# Altium schematic symbol library spacemonochrome-WR_TBL.SchLib: 1696 symbols (part 17 of 28)
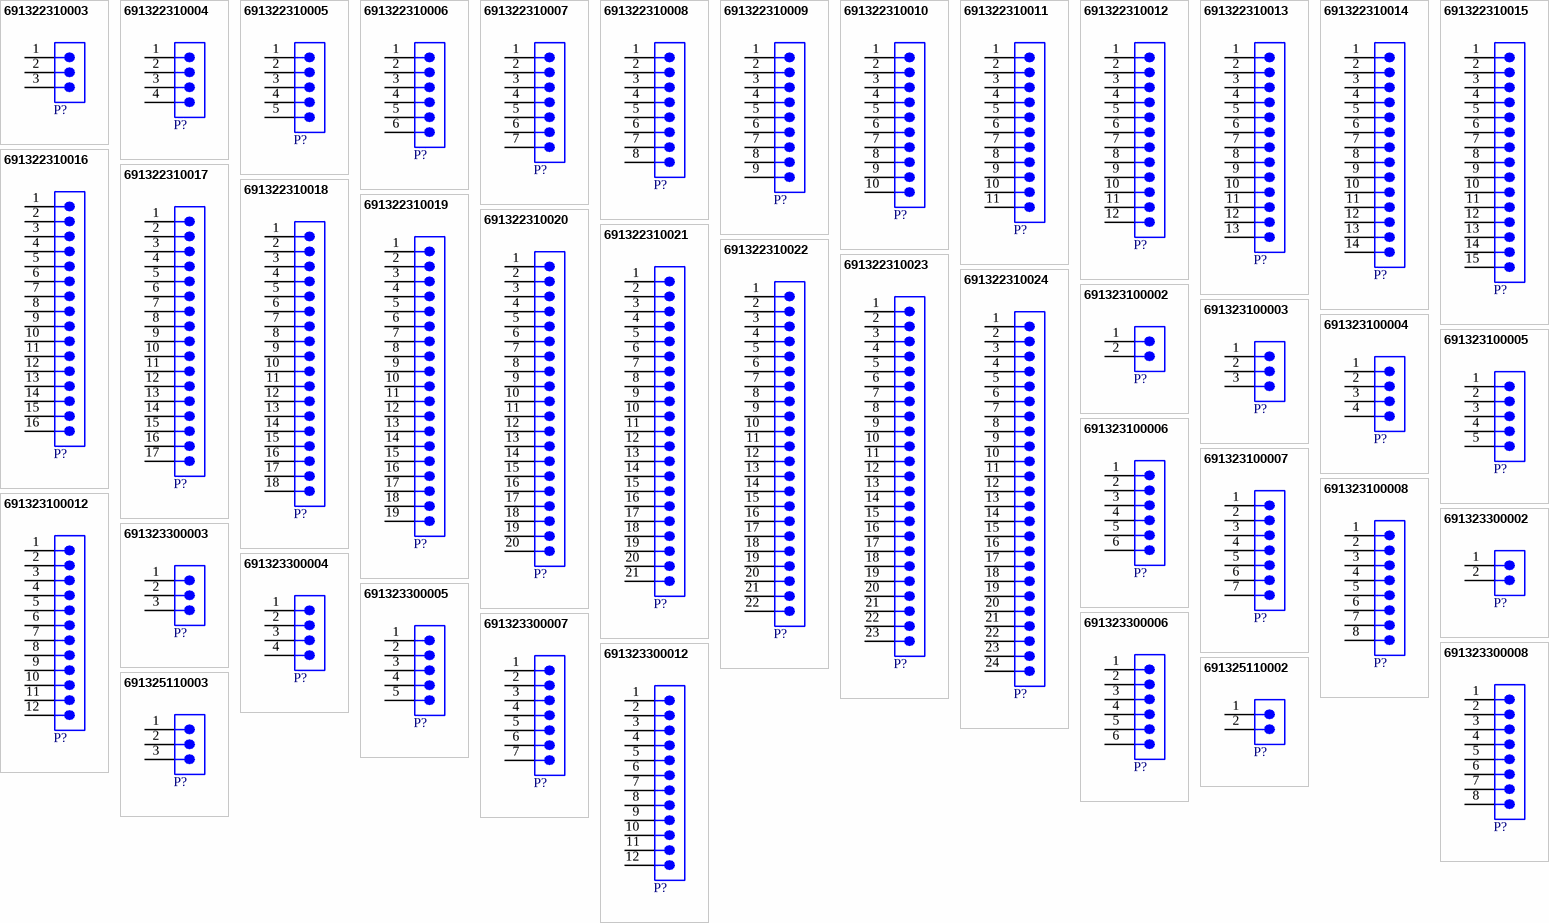
[diagram p58: symbols 691322310003 to 691325110003]

## 691323300008
designator P?  (value not drawn)
WR-TBL Series 3233 Vertical PCB Header with Flanges, THT, pitch 3.81mm, 8p; Manufacturer: Wurth Elektronik; Modularity: No; Rated Current: 10A; Working Voltage: 300V; ComponentLink1Description: Website Link; ComponentLink1URL: https://www.we-online.com/redexpert/article/691323300008?ad; ComponentLink2Description: Datasheet Link; ComponentLink2URL: https://www.we-online.com/redexpert/spec/691323300008?ad; Manufacturer Part Number: 691323300008; Category: Terminal Blocks; Match Code: WR-TBL; Mount: Through Hole; Operating Temperature Max: 105°C; Operating Temperature Min: -40°C; Packaging: Box; Application: Pluggable; Number of Pins: 8; Number of Rows: 1; Orientation: Vertical; Pitch: 3.81mm
footprint 691323300008
pins: 1, 2, 3, 4, 5, 6, 7, 8

## 691323300012
designator P?  (value not drawn)
WR-TBL Series 3233 Vertical PCB Header with Flanges, THT, pitch 3.81mm, 12p; Manufacturer: Wurth Elektronik; Modularity: No; Rated Current: 10A; Working Voltage: 300V; ComponentLink1Description: Website Link; ComponentLink1URL: https://www.we-online.com/redexpert/article/691323300012?ad; ComponentLink2Description: Datasheet Link; ComponentLink2URL: https://www.we-online.com/redexpert/spec/691323300012?ad; Manufacturer Part Number: 691323300012; Category: Terminal Blocks; Match Code: WR-TBL; Mount: Through Hole; Operating Temperature Max: 105°C; Operating Temperature Min: -40°C; Packaging: Box; Application: Pluggable; Number of Pins: 12; Number of Rows: 1; Orientation: Vertical; Pitch: 3.81mm
footprint 691323300012
pins: 1, 2, 3, 4, 5, 6, 7, 8, 9, 10, 11, 12

## 691325110002
designator P?  (value not drawn)
WR-TBL Series 3251 Horizontal PCB Header with Flanges, THT, pitch 3.5mm, 2p; Manufacturer: Wurth Elektronik; Modularity: No; Rated Current: 10A; Working Voltage: 300V; ComponentLink1Description: Website Link; ComponentLink1URL: https://www.we-online.com/redexpert/article/691325110002?ad; ComponentLink2Description: Datasheet Link; ComponentLink2URL: https://www.we-online.com/redexpert/spec/691325110002?ad; Manufacturer Part Number: 691325110002; Category: Terminal Blocks; Match Code: WR-TBL; Mount: Through Hole; Operating Temperature Max: 105°C; Operating Temperature Min: -40°C; Packaging: Box; Application: Pluggable; Number of Pins: 2; Number of Rows: 1; Orientation: Horizontal; Pitch: 3.5mm
footprint 691325110002
pins: 1, 2

## 691325110003
designator P?  (value not drawn)
WR-TBL Series 3251 Horizontal PCB Header with Flanges, THT, pitch 3.5mm, 3p; Manufacturer: Wurth Elektronik; Modularity: No; Rated Current: 10A; Working Voltage: 300V; ComponentLink1Description: Website Link; ComponentLink1URL: https://www.we-online.com/redexpert/article/691325110003?ad; ComponentLink2Description: Datasheet Link; ComponentLink2URL: https://www.we-online.com/redexpert/spec/691325110003?ad; Manufacturer Part Number: 691325110003; Category: Terminal Blocks; Match Code: WR-TBL; Mount: Through Hole; Operating Temperature Max: 105°C; Operating Temperature Min: -40°C; Packaging: Box; Application: Pluggable; Number of Pins: 3; Number of Rows: 1; Orientation: Horizontal; Pitch: 3.5mm
footprint 691325110003
pins: 1, 2, 3

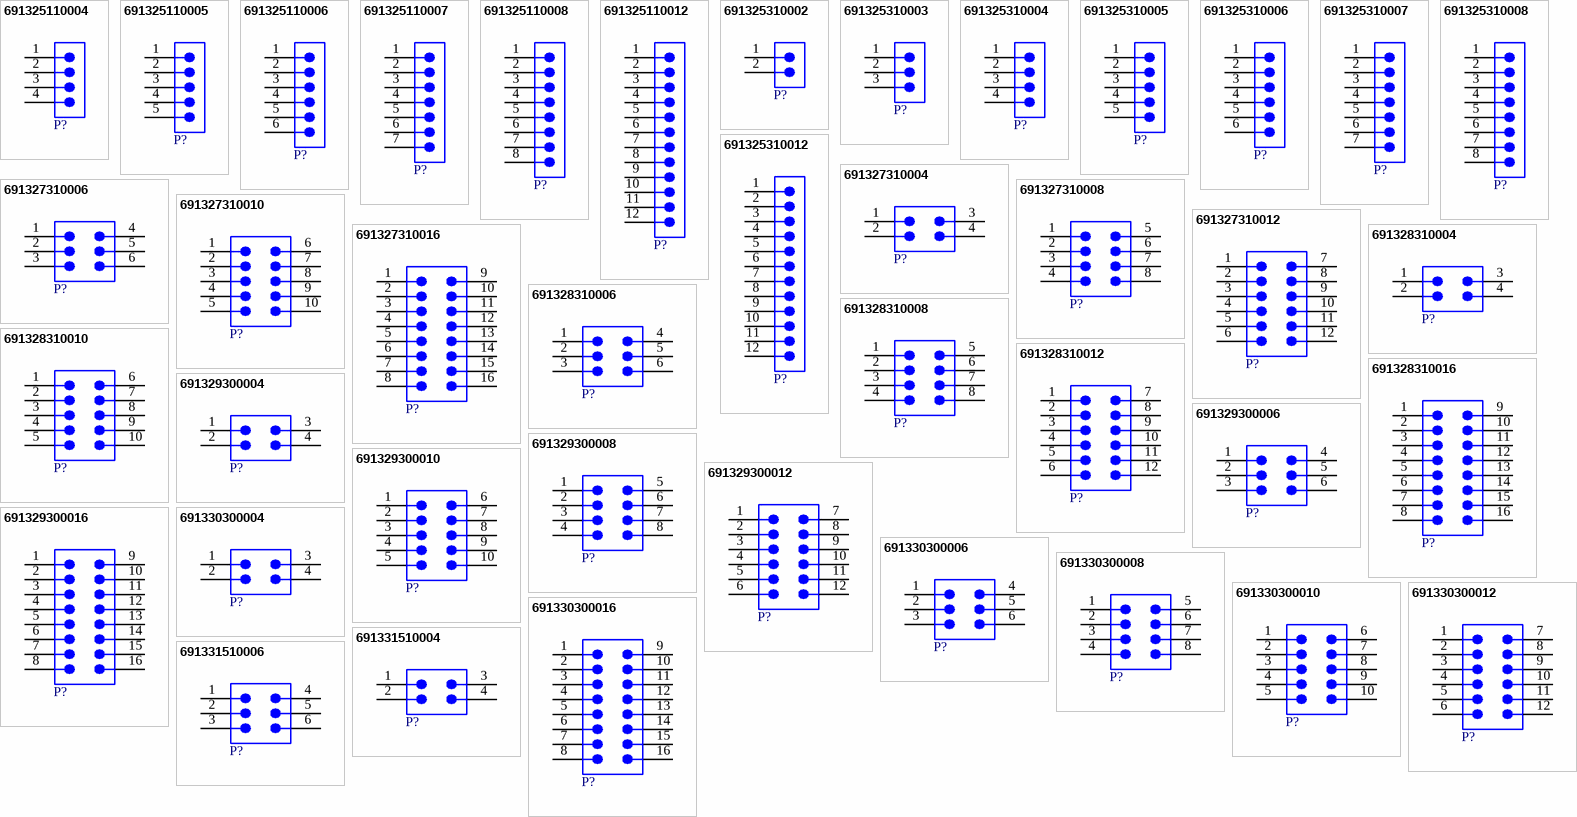
[diagram p25: symbols 691325110004 to 691331510006]

## 691325110004
designator P?  (value not drawn)
WR-TBL Series 3251 Horizontal PCB Header with Flanges, THT, pitch 3.5mm, 4p; Manufacturer: Wurth Elektronik; Modularity: No; Rated Current: 10A; Working Voltage: 300V; ComponentLink1Description: Website Link; ComponentLink1URL: https://www.we-online.com/redexpert/article/691325110004?ad; ComponentLink2Description: Datasheet Link; ComponentLink2URL: https://www.we-online.com/redexpert/spec/691325110004?ad; Manufacturer Part Number: 691325110004; Category: Terminal Blocks; Match Code: WR-TBL; Mount: Through Hole; Operating Temperature Max: 105°C; Operating Temperature Min: -40°C; Packaging: Box; Application: Pluggable; Number of Pins: 4; Number of Rows: 1; Orientation: Horizontal; Pitch: 3.5mm
footprint 691325110004
pins: 1, 2, 3, 4

## 691325110005
designator P?  (value not drawn)
WR-TBL Series 3251 Horizontal PCB Header with Flanges, THT, pitch 3.5mm, 5p; Manufacturer: Wurth Elektronik; Modularity: No; Rated Current: 10A; Working Voltage: 300V; ComponentLink1Description: Website Link; ComponentLink1URL: https://www.we-online.com/redexpert/article/691325110005?ad; ComponentLink2Description: Datasheet Link; ComponentLink2URL: https://www.we-online.com/redexpert/spec/691325110005?ad; Manufacturer Part Number: 691325110005; Category: Terminal Blocks; Match Code: WR-TBL; Mount: Through Hole; Operating Temperature Max: 105°C; Operating Temperature Min: -40°C; Packaging: Box; Application: Pluggable; Number of Pins: 5; Number of Rows: 1; Orientation: Horizontal; Pitch: 3.5mm
footprint 691325110005
pins: 1, 2, 3, 4, 5

## 691325110006
designator P?  (value not drawn)
WR-TBL Series 3251 Horizontal PCB Header with Flanges, THT, pitch 3.5mm, 6p; Manufacturer: Wurth Elektronik; Modularity: No; Rated Current: 10A; Working Voltage: 300V; ComponentLink1Description: Website Link; ComponentLink1URL: https://www.we-online.com/redexpert/article/691325110006?ad; ComponentLink2Description: Datasheet Link; ComponentLink2URL: https://www.we-online.com/redexpert/spec/691325110006?ad; Manufacturer Part Number: 691325110006; Category: Terminal Blocks; Match Code: WR-TBL; Mount: Through Hole; Operating Temperature Max: 105°C; Operating Temperature Min: -40°C; Packaging: Box; Application: Pluggable; Number of Pins: 6; Number of Rows: 1; Orientation: Horizontal; Pitch: 3.5mm
footprint 691325110006
pins: 1, 2, 3, 4, 5, 6

## 691325110007
designator P?  (value not drawn)
WR-TBL Series 3251 Horizontal PCB Header with Flanges, THT, pitch 3.5mm, 7p; Manufacturer: Wurth Elektronik; Modularity: No; Rated Current: 10A; Working Voltage: 300V; ComponentLink1Description: Website Link; ComponentLink1URL: https://www.we-online.com/redexpert/article/691325110007?ad; ComponentLink2Description: Datasheet Link; ComponentLink2URL: https://www.we-online.com/redexpert/spec/691325110007?ad; Manufacturer Part Number: 691325110007; Category: Terminal Blocks; Match Code: WR-TBL; Mount: Through Hole; Operating Temperature Max: 105°C; Operating Temperature Min: -40°C; Packaging: Box; Application: Pluggable; Number of Pins: 7; Number of Rows: 1; Orientation: Horizontal; Pitch: 3.5mm
footprint 691325110007
pins: 1, 2, 3, 4, 5, 6, 7

## 691325110008
designator P?  (value not drawn)
WR-TBL Series 3251 Horizontal PCB Header with Flanges, THT, pitch 3.5mm, 8p; Manufacturer: Wurth Elektronik; Modularity: No; Rated Current: 10A; Working Voltage: 300V; ComponentLink1Description: Website Link; ComponentLink1URL: https://www.we-online.com/redexpert/article/691325110008?ad; ComponentLink2Description: Datasheet Link; ComponentLink2URL: https://www.we-online.com/redexpert/spec/691325110008?ad; Manufacturer Part Number: 691325110008; Category: Terminal Blocks; Match Code: WR-TBL; Mount: Through Hole; Operating Temperature Max: 105°C; Operating Temperature Min: -40°C; Packaging: Box; Application: Pluggable; Number of Pins: 8; Number of Rows: 1; Orientation: Horizontal; Pitch: 3.5mm
footprint 691325110008
pins: 1, 2, 3, 4, 5, 6, 7, 8

## 691325110012
designator P?  (value not drawn)
WR-TBL Series 3251 Horizontal PCB Header with Flanges, THT, pitch 3.5mm, 12p; Manufacturer: Wurth Elektronik; Modularity: No; Rated Current: 10A; Working Voltage: 300V; ComponentLink1Description: Website Link; ComponentLink1URL: https://www.we-online.com/redexpert/article/691325110012?ad; ComponentLink2Description: Datasheet Link; ComponentLink2URL: https://www.we-online.com/redexpert/spec/691325110012?ad; Manufacturer Part Number: 691325110012; Category: Terminal Blocks; Match Code: WR-TBL; Mount: Through Hole; Operating Temperature Max: 105°C; Operating Temperature Min: -40°C; Packaging: Box; Application: Pluggable; Number of Pins: 12; Number of Rows: 1; Orientation: Horizontal; Pitch: 3.5mm
footprint 691325110012
pins: 1, 2, 3, 4, 5, 6, 7, 8, 9, 10, 11, 12

## 691325310002
designator P?  (value not drawn)
WR-TBL Series 3253 Horizontal PCB Header with Flanges, THT, pitch 3.81mm, 2p; Manufacturer: Wurth Elektronik; Modularity: No; Rated Current: 10A; Working Voltage: 300V; ComponentLink1Description: Website Link; ComponentLink1URL: https://www.we-online.com/redexpert/article/691325310002?ad; ComponentLink2Description: Datasheet Link; ComponentLink2URL: https://www.we-online.com/redexpert/spec/691325310002?ad; Manufacturer Part Number: 691325310002; Category: Terminal Blocks; Match Code: WR-TBL; Mount: Through Hole; Operating Temperature Max: 105°C; Operating Temperature Min: -40°C; Packaging: Box; Application: Pluggable; Number of Pins: 2; Number of Rows: 1; Orientation: Horizontal; Pitch: 3.81mm
footprint 691325310002
pins: 1, 2

## 691325310003
designator P?  (value not drawn)
WR-TBL Series 3253 Horizontal PCB Header with Flanges, THT, pitch 3.81mm, 3p; Manufacturer: Wurth Elektronik; Modularity: No; Rated Current: 10A; Working Voltage: 300V; ComponentLink1Description: Website Link; ComponentLink1URL: https://www.we-online.com/redexpert/article/691325310003?ad; ComponentLink2Description: Datasheet Link; ComponentLink2URL: https://www.we-online.com/redexpert/spec/691325310003?ad; Manufacturer Part Number: 691325310003; Category: Terminal Blocks; Match Code: WR-TBL; Mount: Through Hole; Operating Temperature Max: 105°C; Operating Temperature Min: -40°C; Packaging: Box; Application: Pluggable; Number of Pins: 3; Number of Rows: 1; Orientation: Horizontal; Pitch: 3.81mm
footprint 691325310003
pins: 1, 2, 3

## 691325310004
designator P?  (value not drawn)
WR-TBL Series 3253 Horizontal PCB Header with Flanges, THT, pitch 3.81mm, 4p; Manufacturer: Wurth Elektronik; Modularity: No; Rated Current: 10A; Working Voltage: 300V; ComponentLink1Description: Website Link; ComponentLink1URL: https://www.we-online.com/redexpert/article/691325310004?ad; ComponentLink2Description: Datasheet Link; ComponentLink2URL: https://www.we-online.com/redexpert/spec/691325310004?ad; Manufacturer Part Number: 691325310004; Category: Terminal Blocks; Match Code: WR-TBL; Mount: Through Hole; Operating Temperature Max: 105°C; Operating Temperature Min: -40°C; Packaging: Box; Application: Pluggable; Number of Pins: 4; Number of Rows: 1; Orientation: Horizontal; Pitch: 3.81mm
footprint 691325310004
pins: 1, 2, 3, 4

## 691325310005
designator P?  (value not drawn)
WR-TBL Series 3253 Horizontal PCB Header with Flanges, THT, pitch 3.81mm, 5p; Manufacturer: Wurth Elektronik; Modularity: No; Rated Current: 10A; Working Voltage: 300V; ComponentLink1Description: Website Link; ComponentLink1URL: https://www.we-online.com/redexpert/article/691325310005?ad; ComponentLink2Description: Datasheet Link; ComponentLink2URL: https://www.we-online.com/redexpert/spec/691325310005?ad; Manufacturer Part Number: 691325310005; Category: Terminal Blocks; Match Code: WR-TBL; Mount: Through Hole; Operating Temperature Max: 105°C; Operating Temperature Min: -40°C; Packaging: Box; Application: Pluggable; Number of Pins: 5; Number of Rows: 1; Orientation: Horizontal; Pitch: 3.81mm
footprint 691325310005
pins: 1, 2, 3, 4, 5

## 691325310006
designator P?  (value not drawn)
WR-TBL Series 3253 Horizontal PCB Header with Flanges, THT, pitch 3.81mm, 6p; Manufacturer: Wurth Elektronik; Modularity: No; Rated Current: 10A; Working Voltage: 300V; ComponentLink1Description: Website Link; ComponentLink1URL: https://www.we-online.com/redexpert/article/691325310006?ad; ComponentLink2Description: Datasheet Link; ComponentLink2URL: https://www.we-online.com/redexpert/spec/691325310006?ad; Manufacturer Part Number: 691325310006; Category: Terminal Blocks; Match Code: WR-TBL; Mount: Through Hole; Operating Temperature Max: 105°C; Operating Temperature Min: -40°C; Packaging: Box; Application: Pluggable; Number of Pins: 6; Number of Rows: 1; Orientation: Horizontal; Pitch: 3.81mm
footprint 691325310006
pins: 1, 2, 3, 4, 5, 6

## 691325310007
designator P?  (value not drawn)
WR-TBL Series 3253 Horizontal PCB Header with Flanges, THT, pitch 3.81mm, 7p; Manufacturer: Wurth Elektronik; Modularity: No; Rated Current: 10A; Working Voltage: 300V; ComponentLink1Description: Website Link; ComponentLink1URL: https://www.we-online.com/redexpert/article/691325310007?ad; ComponentLink2Description: Datasheet Link; ComponentLink2URL: https://www.we-online.com/redexpert/spec/691325310007?ad; Manufacturer Part Number: 691325310007; Category: Terminal Blocks; Match Code: WR-TBL; Mount: Through Hole; Operating Temperature Max: 105°C; Operating Temperature Min: -40°C; Packaging: Box; Application: Pluggable; Number of Pins: 7; Number of Rows: 1; Orientation: Horizontal; Pitch: 3.81mm
footprint 691325310007
pins: 1, 2, 3, 4, 5, 6, 7

## 691325310008
designator P?  (value not drawn)
WR-TBL Series 3253 Horizontal PCB Header with Flanges, THT, pitch 3.81mm, 8p; Manufacturer: Wurth Elektronik; Modularity: No; Rated Current: 10A; Working Voltage: 300V; ComponentLink1Description: Website Link; ComponentLink1URL: https://www.we-online.com/redexpert/article/691325310008?ad; ComponentLink2Description: Datasheet Link; ComponentLink2URL: https://www.we-online.com/redexpert/spec/691325310008?ad; Manufacturer Part Number: 691325310008; Category: Terminal Blocks; Match Code: WR-TBL; Mount: Through Hole; Operating Temperature Max: 105°C; Operating Temperature Min: -40°C; Packaging: Box; Application: Pluggable; Number of Pins: 8; Number of Rows: 1; Orientation: Horizontal; Pitch: 3.81mm
footprint 691325310008
pins: 1, 2, 3, 4, 5, 6, 7, 8

## 691325310012
designator P?  (value not drawn)
WR-TBL Series 3253 Horizontal PCB Header with Flanges, THT, pitch 3.81mm, 12p; Manufacturer: Wurth Elektronik; Modularity: No; Rated Current: 10A; Working Voltage: 300V; ComponentLink1Description: Website Link; ComponentLink1URL: https://www.we-online.com/redexpert/article/691325310012?ad; ComponentLink2Description: Datasheet Link; ComponentLink2URL: https://www.we-online.com/redexpert/spec/691325310012?ad; Manufacturer Part Number: 691325310012; Category: Terminal Blocks; Match Code: WR-TBL; Mount: Through Hole; Operating Temperature Max: 105°C; Operating Temperature Min: -40°C; Packaging: Box; Application: Pluggable; Number of Pins: 12; Number of Rows: 1; Orientation: Horizontal; Pitch: 3.81mm
footprint 691325310012
pins: 1, 2, 3, 4, 5, 6, 7, 8, 9, 10, 11, 12

## 691327310004
designator P?  (value not drawn)
WR-TBL Series 3273 Double Level Horizontal PCB Header with Flanges, THT, pitch 3.81mm, 4p; Manufacturer: Wurth Elektronik; Modularity: No; Rated Current: 10A; Working Voltage: 300V; ComponentLink1Description: Website Link; ComponentLink1URL: https://www.we-online.com/redexpert/article/691327310004?ad; ComponentLink2Description: Datasheet Link; ComponentLink2URL: https://www.we-online.com/redexpert/spec/691327310004?ad; Manufacturer Part Number: 691327310004; Category: Terminal Blocks; Match Code: WR-TBL; Mount: Through Hole; Operating Temperature Max: 105°C; Operating Temperature Min: -40°C; Packaging: Box; Application: Pluggable; Number of Pins: 4; Number of Rows: 2; Orientation: Double Level Horizontal; Pitch: 3.81mm
footprint 691327310004
pins: 1, 2, 3, 4

## 691327310006
designator P?  (value not drawn)
WR-TBL Series 3273 Double Level Horizontal PCB Header with Flanges, THT, pitch 3.81mm, 6p; Manufacturer: Wurth Elektronik; Modularity: No; Rated Current: 10A; Working Voltage: 300V; ComponentLink1Description: Website Link; ComponentLink1URL: https://www.we-online.com/redexpert/article/691327310006?ad; ComponentLink2Description: Datasheet Link; ComponentLink2URL: https://www.we-online.com/redexpert/spec/691327310006?ad; Manufacturer Part Number: 691327310006; Category: Terminal Blocks; Match Code: WR-TBL; Mount: Through Hole; Operating Temperature Max: 105°C; Operating Temperature Min: -40°C; Packaging: Box; Application: Pluggable; Number of Pins: 6; Number of Rows: 2; Orientation: Double Level Horizontal; Pitch: 3.81mm
footprint 691327310006
pins: 1, 2, 3, 4, 5, 6

## 691327310008
designator P?  (value not drawn)
WR-TBL Series 3273 Double Level Horizontal PCB Header with Flanges, THT, pitch 3.81mm, 8p; Manufacturer: Wurth Elektronik; Modularity: No; Rated Current: 10A; Working Voltage: 300V; ComponentLink1Description: Website Link; ComponentLink1URL: https://www.we-online.com/redexpert/article/691327310008?ad; ComponentLink2Description: Datasheet Link; ComponentLink2URL: https://www.we-online.com/redexpert/spec/691327310008?ad; Manufacturer Part Number: 691327310008; Category: Terminal Blocks; Match Code: WR-TBL; Mount: Through Hole; Operating Temperature Max: 105°C; Operating Temperature Min: -40°C; Packaging: Box; Application: Pluggable; Number of Pins: 8; Number of Rows: 2; Orientation: Double Level Horizontal; Pitch: 3.81mm
footprint 691327310008
pins: 1, 2, 3, 4, 5, 6, 7, 8

## 691327310010
designator P?  (value not drawn)
WR-TBL Series 3273 Double Level Horizontal PCB Header with Flanges, THT, pitch 3.81mm, 10p; Manufacturer: Wurth Elektronik; Modularity: No; Rated Current: 10A; Working Voltage: 300V; ComponentLink1Description: Website Link; ComponentLink1URL: https://www.we-online.com/redexpert/article/691327310010?ad; ComponentLink2Description: Datasheet Link; ComponentLink2URL: https://www.we-online.com/redexpert/spec/691327310010?ad; Manufacturer Part Number: 691327310010; Category: Terminal Blocks; Match Code: WR-TBL; Mount: Through Hole; Operating Temperature Max: 105°C; Operating Temperature Min: -40°C; Packaging: Box; Application: Pluggable; Number of Pins: 10; Number of Rows: 2; Orientation: Double Level Horizontal; Pitch: 3.81mm
footprint 691327310010
pins: 1, 2, 3, 4, 5, 6, 7, 8, 9, 10

## 691327310012
designator P?  (value not drawn)
WR-TBL Series 3273 Double Level Horizontal PCB Header with Flanges, THT, pitch 3.81mm, 12p; Manufacturer: Wurth Elektronik; Modularity: No; Rated Current: 10A; Working Voltage: 300V; ComponentLink1Description: Website Link; ComponentLink1URL: https://www.we-online.com/redexpert/article/691327310012?ad; ComponentLink2Description: Datasheet Link; ComponentLink2URL: https://www.we-online.com/redexpert/spec/691327310012?ad; Manufacturer Part Number: 691327310012; Category: Terminal Blocks; Match Code: WR-TBL; Mount: Through Hole; Operating Temperature Max: 105°C; Operating Temperature Min: -40°C; Packaging: Box; Application: Pluggable; Number of Pins: 12; Number of Rows: 2; Orientation: Double Level Horizontal; Pitch: 3.81mm
footprint 691327310012
pins: 1, 2, 3, 4, 5, 6, 7, 8, 9, 10, 11, 12

## 691327310016
designator P?  (value not drawn)
WR-TBL Series 3273 Double Level Horizontal PCB Header with Flanges, THT, pitch 3.81mm, 16p; Manufacturer: Wurth Elektronik; Modularity: No; Rated Current: 10A; Working Voltage: 300V; ComponentLink1Description: Website Link; ComponentLink1URL: https://www.we-online.com/redexpert/article/691327310016?ad; ComponentLink2Description: Datasheet Link; ComponentLink2URL: https://www.we-online.com/redexpert/spec/691327310016?ad; Manufacturer Part Number: 691327310016; Category: Terminal Blocks; Match Code: WR-TBL; Mount: Through Hole; Operating Temperature Max: 105°C; Operating Temperature Min: -40°C; Packaging: Box; Application: Pluggable; Number of Pins: 16; Number of Rows: 2; Orientation: Double Level Horizontal; Pitch: 3.81mm
footprint 691327310016
pins: 1, 2, 3, 4, 5, 6, 7, 8, 9, 10, 11, 12, 13, 14, 15, 16

## 691328310004
designator P?  (value not drawn)
WR-TBL Series 3283 Double Level Horizontal PCB Header with Flanges & Nut Type, THT, pitch 3.81mm, 4p; Manufacturer: Wurth Elektronik; Modularity: No; Rated Current: 10A; Working Voltage: 300V; ComponentLink1Description: Website Link; ComponentLink1URL: https://www.we-online.com/redexpert/article/691328310004?ad; ComponentLink2Description: Datasheet Link; ComponentLink2URL: https://www.we-online.com/redexpert/spec/691328310004?ad; Manufacturer Part Number: 691328310004; Category: Terminal Blocks; Match Code: WR-TBL; Mount: Through Hole; Operating Temperature Max: 105°C; Operating Temperature Min: -40°C; Packaging: Box; Application: Pluggable; Number of Pins: 4; Number of Rows: 2; Orientation: Double Level Horizontal; Pitch: 3.81mm
footprint 691328310004
pins: 1, 2, 3, 4

## 691328310006
designator P?  (value not drawn)
WR-TBL Series 3283 Double Level Horizontal PCB Header with Flanges & Nut Type, THT, pitch 3.81mm, 6p; Manufacturer: Wurth Elektronik; Modularity: No; Rated Current: 10A; Working Voltage: 300V; ComponentLink1Description: Website Link; ComponentLink1URL: https://www.we-online.com/redexpert/article/691328310006?ad; ComponentLink2Description: Datasheet Link; ComponentLink2URL: https://www.we-online.com/redexpert/spec/691328310006?ad; Manufacturer Part Number: 691328310006; Category: Terminal Blocks; Match Code: WR-TBL; Mount: Through Hole; Operating Temperature Max: 105°C; Operating Temperature Min: -40°C; Packaging: Box; Application: Pluggable; Number of Pins: 6; Number of Rows: 2; Orientation: Double Level Horizontal; Pitch: 3.81mm
footprint 691328310006
pins: 1, 2, 3, 4, 5, 6

## 691328310008
designator P?  (value not drawn)
WR-TBL Series 3283 Double Level Horizontal PCB Header with Flanges & Nut Type, THT, pitch 3.81mm, 8p; Manufacturer: Wurth Elektronik; Modularity: No; Rated Current: 10A; Working Voltage: 300V; ComponentLink1Description: Website Link; ComponentLink1URL: https://www.we-online.com/redexpert/article/691328310008?ad; ComponentLink2Description: Datasheet Link; ComponentLink2URL: https://www.we-online.com/redexpert/spec/691328310008?ad; Manufacturer Part Number: 691328310008; Category: Terminal Blocks; Match Code: WR-TBL; Mount: Through Hole; Operating Temperature Max: 105°C; Operating Temperature Min: -40°C; Packaging: Box; Application: Pluggable; Number of Pins: 8; Number of Rows: 2; Orientation: Double Level Horizontal; Pitch: 3.81mm
footprint 691328310008
pins: 1, 2, 3, 4, 5, 6, 7, 8

## 691328310010
designator P?  (value not drawn)
WR-TBL Series 3283 Double Level Horizontal PCB Header with Flanges & Nut Type, THT, pitch 3.81mm, 10; Manufacturer: Wurth Elektronik; Modularity: No; Rated Current: 10A; Working Voltage: 300V; ComponentLink1Description: Website Link; ComponentLink1URL: https://www.we-online.com/redexpert/article/691328310010?ad; ComponentLink2Description: Datasheet Link; ComponentLink2URL: https://www.we-online.com/redexpert/spec/691328310010?ad; Manufacturer Part Number: 691328310010; Category: Terminal Blocks; Match Code: WR-TBL; Mount: Through Hole; Operating Temperature Max: 105°C; Operating Temperature Min: -40°C; Packaging: Box; Application: Pluggable; Number of Pins: 10; Number of Rows: 2; Orientation: Double Level Horizontal; Pitch: 3.81mm
footprint 691328310010
pins: 1, 2, 3, 4, 5, 6, 7, 8, 9, 10

## 691328310012
designator P?  (value not drawn)
WR-TBL Series 3283 Double Level Horizontal PCB Header with Flanges & Nut Type, THT, pitch 3.81mm, 12; Manufacturer: Wurth Elektronik; Modularity: No; Rated Current: 10A; Working Voltage: 300V; ComponentLink1Description: Website Link; ComponentLink1URL: https://www.we-online.com/redexpert/article/691328310012?ad; ComponentLink2Description: Datasheet Link; ComponentLink2URL: https://www.we-online.com/redexpert/spec/691328310012?ad; Manufacturer Part Number: 691328310012; Category: Terminal Blocks; Match Code: WR-TBL; Mount: Through Hole; Operating Temperature Max: 105°C; Operating Temperature Min: -40°C; Packaging: Box; Application: Pluggable; Number of Pins: 12; Number of Rows: 2; Orientation: Double Level Horizontal; Pitch: 3.81mm
footprint 691328310012
pins: 1, 2, 3, 4, 5, 6, 7, 8, 9, 10, 11, 12

## 691328310016
designator P?  (value not drawn)
WR-TBL Series 3283 Double Level Horizontal PCB Header with Flanges & Nut Type, THT, pitch 3.81mm, 16; Manufacturer: Wurth Elektronik; Modularity: No; Rated Current: 10A; Working Voltage: 300V; ComponentLink1Description: Website Link; ComponentLink1URL: https://www.we-online.com/redexpert/article/691328310016?ad; ComponentLink2Description: Datasheet Link; ComponentLink2URL: https://www.we-online.com/redexpert/spec/691328310016?ad; Manufacturer Part Number: 691328310016; Category: Terminal Blocks; Match Code: WR-TBL; Mount: Through Hole; Operating Temperature Max: 105°C; Operating Temperature Min: -40°C; Packaging: Box; Application: Pluggable; Number of Pins: 16; Number of Rows: 2; Orientation: Double Level Horizontal; Pitch: 3.81mm
footprint 691328310016
pins: 1, 2, 3, 4, 5, 6, 7, 8, 9, 10, 11, 12, 13, 14, 15, 16

## 691329300004
designator P?  (value not drawn)
WR-TBL Series 3293 Double Level Vertical PCB Header, THT, pitch 3.81mm, 4p; Manufacturer: Wurth Elektronik; Modularity: No; Rated Current: 10A; Working Voltage: 300V; ComponentLink1Description: Website Link; ComponentLink1URL: https://www.we-online.com/redexpert/article/691329300004?ad; ComponentLink2Description: Datasheet Link; ComponentLink2URL: https://www.we-online.com/redexpert/spec/691329300004?ad; Manufacturer Part Number: 691329300004; Category: Terminal Blocks; Match Code: WR-TBL; Mount: Through Hole; Operating Temperature Max: 105°C; Operating Temperature Min: -40°C; Packaging: Box; Application: Pluggable; Number of Pins: 4; Number of Rows: 2; Orientation: Double Level Vertical; Pitch: 3.81mm
footprint 691329300004
pins: 1, 2, 3, 4

## 691329300006
designator P?  (value not drawn)
WR-TBL Series 3293 Double Level Vertical PCB Header, THT, pitch 3.81mm, 6p; Manufacturer: Wurth Elektronik; Modularity: No; Rated Current: 10A; Working Voltage: 300V; ComponentLink1Description: Website Link; ComponentLink1URL: https://www.we-online.com/redexpert/article/691329300006?ad; ComponentLink2Description: Datasheet Link; ComponentLink2URL: https://www.we-online.com/redexpert/spec/691329300006?ad; Manufacturer Part Number: 691329300006; Category: Terminal Blocks; Match Code: WR-TBL; Mount: Through Hole; Operating Temperature Max: 105°C; Operating Temperature Min: -40°C; Packaging: Box; Application: Pluggable; Number of Pins: 6; Number of Rows: 2; Orientation: Double Level Vertical; Pitch: 3.81mm
footprint 691329300006
pins: 1, 2, 3, 4, 5, 6

## 691329300008
designator P?  (value not drawn)
WR-TBL Series 3293 Double Level Vertical PCB Header, THT, pitch 3.81mm, 8p; Manufacturer: Wurth Elektronik; Modularity: No; Rated Current: 10A; Working Voltage: 300V; ComponentLink1Description: Website Link; ComponentLink1URL: https://www.we-online.com/redexpert/article/691329300008?ad; ComponentLink2Description: Datasheet Link; ComponentLink2URL: https://www.we-online.com/redexpert/spec/691329300008?ad; Manufacturer Part Number: 691329300008; Category: Terminal Blocks; Match Code: WR-TBL; Mount: Through Hole; Operating Temperature Max: 105°C; Operating Temperature Min: -40°C; Packaging: Box; Application: Pluggable; Number of Pins: 8; Number of Rows: 2; Orientation: Double Level Vertical; Pitch: 3.81mm
footprint 691329300008
pins: 1, 2, 3, 4, 5, 6, 7, 8

## 691329300010
designator P?  (value not drawn)
WR-TBL Series 3293 Double Level Vertical PCB Header, THT, pitch 3.81mm, 10p; Manufacturer: Wurth Elektronik; Modularity: No; Rated Current: 10A; Working Voltage: 300V; ComponentLink1Description: Website Link; ComponentLink1URL: https://www.we-online.com/redexpert/article/691329300010?ad; ComponentLink2Description: Datasheet Link; ComponentLink2URL: https://www.we-online.com/redexpert/spec/691329300010?ad; Manufacturer Part Number: 691329300010; Category: Terminal Blocks; Match Code: WR-TBL; Mount: Through Hole; Operating Temperature Max: 105°C; Operating Temperature Min: -40°C; Packaging: Box; Application: Pluggable; Number of Pins: 10; Number of Rows: 2; Orientation: Double Level Vertical; Pitch: 3.81mm
footprint 691329300010
pins: 1, 2, 3, 4, 5, 6, 7, 8, 9, 10

## 691329300012
designator P?  (value not drawn)
WR-TBL Series 3293 Double Level Vertical PCB Header, THT, pitch 3.81mm, 12p; Manufacturer: Wurth Elektronik; Modularity: No; Rated Current: 10A; Working Voltage: 300V; ComponentLink1Description: Website Link; ComponentLink1URL: https://www.we-online.com/redexpert/article/691329300012?ad; ComponentLink2Description: Datasheet Link; ComponentLink2URL: https://www.we-online.com/redexpert/spec/691329300012?ad; Manufacturer Part Number: 691329300012; Category: Terminal Blocks; Match Code: WR-TBL; Mount: Through Hole; Operating Temperature Max: 105°C; Operating Temperature Min: -40°C; Packaging: Box; Application: Pluggable; Number of Pins: 12; Number of Rows: 2; Orientation: Double Level Vertical; Pitch: 3.81mm
footprint 691329300012
pins: 1, 2, 3, 4, 5, 6, 7, 8, 9, 10, 11, 12

## 691329300016
designator P?  (value not drawn)
WR-TBL Series 3293 Double Level Vertical PCB Header, THT, pitch 3.81mm, 16p; Manufacturer: Wurth Elektronik; Modularity: No; Rated Current: 10A; Working Voltage: 300V; ComponentLink1Description: Website Link; ComponentLink1URL: https://www.we-online.com/redexpert/article/691329300016?ad; ComponentLink2Description: Datasheet Link; ComponentLink2URL: https://www.we-online.com/redexpert/spec/691329300016?ad; Manufacturer Part Number: 691329300016; Category: Terminal Blocks; Match Code: WR-TBL; Mount: Through Hole; Operating Temperature Max: 105°C; Operating Temperature Min: -40°C; Packaging: Box; Application: Pluggable; Number of Pins: 16; Number of Rows: 2; Orientation: Double Level Vertical; Pitch: 3.81mm
footprint 691329300016
pins: 1, 2, 3, 4, 5, 6, 7, 8, 9, 10, 11, 12, 13, 14, 15, 16

## 691330300004
designator P?  (value not drawn)
WR-TBL Series 3303 Double Level Vertical PCB Header with Flanges & Nut Type, THT, pitch 3.81mm, 4p; Manufacturer: Wurth Elektronik; Modularity: No; Rated Current: 10A; Working Voltage: 300V; ComponentLink1Description: Website Link; ComponentLink1URL: https://www.we-online.com/redexpert/article/691330300004?ad; ComponentLink2Description: Datasheet Link; ComponentLink2URL: https://www.we-online.com/redexpert/spec/691330300004?ad; Manufacturer Part Number: 691330300004; Category: Terminal Blocks; Match Code: WR-TBL; Mount: Through Hole; Operating Temperature Max: 105°C; Operating Temperature Min: -40°C; Packaging: Box; Application: Pluggable; Number of Pins: 4; Number of Rows: 2; Orientation: Double Level Vertical; Pitch: 3.81mm
footprint 691330300004
pins: 1, 2, 3, 4

## 691330300006
designator P?  (value not drawn)
WR-TBL Series 3303 Double Level Vertical PCB Header with Flanges & Nut Type, THT, pitch 3.81mm, 6p; Manufacturer: Wurth Elektronik; Modularity: No; Rated Current: 10A; Working Voltage: 300V; ComponentLink1Description: Website Link; ComponentLink1URL: https://www.we-online.com/redexpert/article/691330300006?ad; ComponentLink2Description: Datasheet Link; ComponentLink2URL: https://www.we-online.com/redexpert/spec/691330300006?ad; Manufacturer Part Number: 691330300006; Category: Terminal Blocks; Match Code: WR-TBL; Mount: Through Hole; Operating Temperature Max: 105°C; Operating Temperature Min: -40°C; Packaging: Box; Application: Pluggable; Number of Pins: 6; Number of Rows: 2; Orientation: Double Level Vertical; Pitch: 3.81mm
footprint 691330300006
pins: 1, 2, 3, 4, 5, 6

## 691330300008
designator P?  (value not drawn)
WR-TBL Series 3303 Double Level Vertical PCB Header with Flanges & Nut Type, THT, pitch 3.81mm, 8p; Manufacturer: Wurth Elektronik; Modularity: No; Rated Current: 10A; Working Voltage: 300V; ComponentLink1Description: Website Link; ComponentLink1URL: https://www.we-online.com/redexpert/article/691330300008?ad; ComponentLink2Description: Datasheet Link; ComponentLink2URL: https://www.we-online.com/redexpert/spec/691330300008?ad; Manufacturer Part Number: 691330300008; Category: Terminal Blocks; Match Code: WR-TBL; Mount: Through Hole; Operating Temperature Max: 105°C; Operating Temperature Min: -40°C; Packaging: Box; Application: Pluggable; Number of Pins: 8; Number of Rows: 2; Orientation: Double Level Vertical; Pitch: 3.81mm
footprint 691330300008
pins: 1, 2, 3, 4, 5, 6, 7, 8

## 691330300010
designator P?  (value not drawn)
WR-TBL Series 3303 Double Level Vertical PCB Header with Flanges & Nut Type, THT, pitch 3.81mm, 10p; Manufacturer: Wurth Elektronik; Modularity: No; Rated Current: 10A; Working Voltage: 300V; ComponentLink1Description: Website Link; ComponentLink1URL: https://www.we-online.com/redexpert/article/691330300010?ad; ComponentLink2Description: Datasheet Link; ComponentLink2URL: https://www.we-online.com/redexpert/spec/691330300010?ad; Manufacturer Part Number: 691330300010; Category: Terminal Blocks; Match Code: WR-TBL; Mount: Through Hole; Operating Temperature Max: 105°C; Operating Temperature Min: -40°C; Packaging: Box; Application: Pluggable; Number of Pins: 10; Number of Rows: 2; Orientation: Double Level Vertical; Pitch: 3.81mm
footprint 691330300010
pins: 1, 2, 3, 4, 5, 6, 7, 8, 9, 10

## 691330300012
designator P?  (value not drawn)
WR-TBL Series 3303 Double Level Vertical PCB Header with Flanges & Nut Type, THT, pitch 3.81mm, 12p; Manufacturer: Wurth Elektronik; Modularity: No; Rated Current: 10A; Working Voltage: 300V; ComponentLink1Description: Website Link; ComponentLink1URL: https://www.we-online.com/redexpert/article/691330300012?ad; ComponentLink2Description: Datasheet Link; ComponentLink2URL: https://www.we-online.com/redexpert/spec/691330300012?ad; Manufacturer Part Number: 691330300012; Category: Terminal Blocks; Match Code: WR-TBL; Mount: Through Hole; Operating Temperature Max: 105°C; Operating Temperature Min: -40°C; Packaging: Box; Application: Pluggable; Number of Pins: 12; Number of Rows: 2; Orientation: Double Level Vertical; Pitch: 3.81mm
footprint 691330300012
pins: 1, 2, 3, 4, 5, 6, 7, 8, 9, 10, 11, 12

## 691330300016
designator P?  (value not drawn)
WR-TBL Series 3303 Double Level Vertical PCB Header with Flanges & Nut Type, THT, pitch 3.81mm, 16p; Manufacturer: Wurth Elektronik; Modularity: No; Rated Current: 10A; Working Voltage: 300V; ComponentLink1Description: Website Link; ComponentLink1URL: https://www.we-online.com/redexpert/article/691330300016?ad; ComponentLink2Description: Datasheet Link; ComponentLink2URL: https://www.we-online.com/redexpert/spec/691330300016?ad; Manufacturer Part Number: 691330300016; Category: Terminal Blocks; Match Code: WR-TBL; Mount: Through Hole; Operating Temperature Max: 105°C; Operating Temperature Min: -40°C; Packaging: Box; Application: Pluggable; Number of Pins: 16; Number of Rows: 2; Orientation: Double Level Vertical; Pitch: 3.81mm
footprint 691330300016
pins: 1, 2, 3, 4, 5, 6, 7, 8, 9, 10, 11, 12, 13, 14, 15, 16

## 691331510004
designator P?  (value not drawn)
WR-TBL Series 3315 Double Level Horizontal PCB Header with Flanges, THT, pitch 5.08mm, 4p; Manufacturer: Wurth Elektronik; Modularity: No; Rated Current: 20A; Working Voltage: 300V; ComponentLink1Description: Website Link; ComponentLink1URL: https://www.we-online.com/redexpert/article/691331510004?ad; ComponentLink2Description: Datasheet Link; ComponentLink2URL: https://www.we-online.com/redexpert/spec/691331510004?ad; Manufacturer Part Number: 691331510004; Category: Terminal Blocks; Match Code: WR-TBL; Mount: Through Hole; Operating Temperature Max: 105°C; Operating Temperature Min: -40°C; Packaging: Box; Application: Pluggable; Number of Pins: 4; Number of Rows: 2; Orientation: Double Level Horizontal; Pitch: 5.08mm
footprint 691331510004
pins: 1, 2, 3, 4

## 691331510006
designator P?  (value not drawn)
WR-TBL Series 3315 Double Level Horizontal PCB Header with Flanges, THT, pitch 5.08mm, 6p; Manufacturer: Wurth Elektronik; Modularity: No; Rated Current: 20A; Working Voltage: 300V; ComponentLink1Description: Website Link; ComponentLink1URL: https://www.we-online.com/redexpert/article/691331510006?ad; ComponentLink2Description: Datasheet Link; ComponentLink2URL: https://www.we-online.com/redexpert/spec/691331510006?ad; Manufacturer Part Number: 691331510006; Category: Terminal Blocks; Match Code: WR-TBL; Mount: Through Hole; Operating Temperature Max: 105°C; Operating Temperature Min: -40°C; Packaging: Box; Application: Pluggable; Number of Pins: 6; Number of Rows: 2; Orientation: Double Level Horizontal; Pitch: 5.08mm
footprint 691331510006
pins: 1, 2, 3, 4, 5, 6

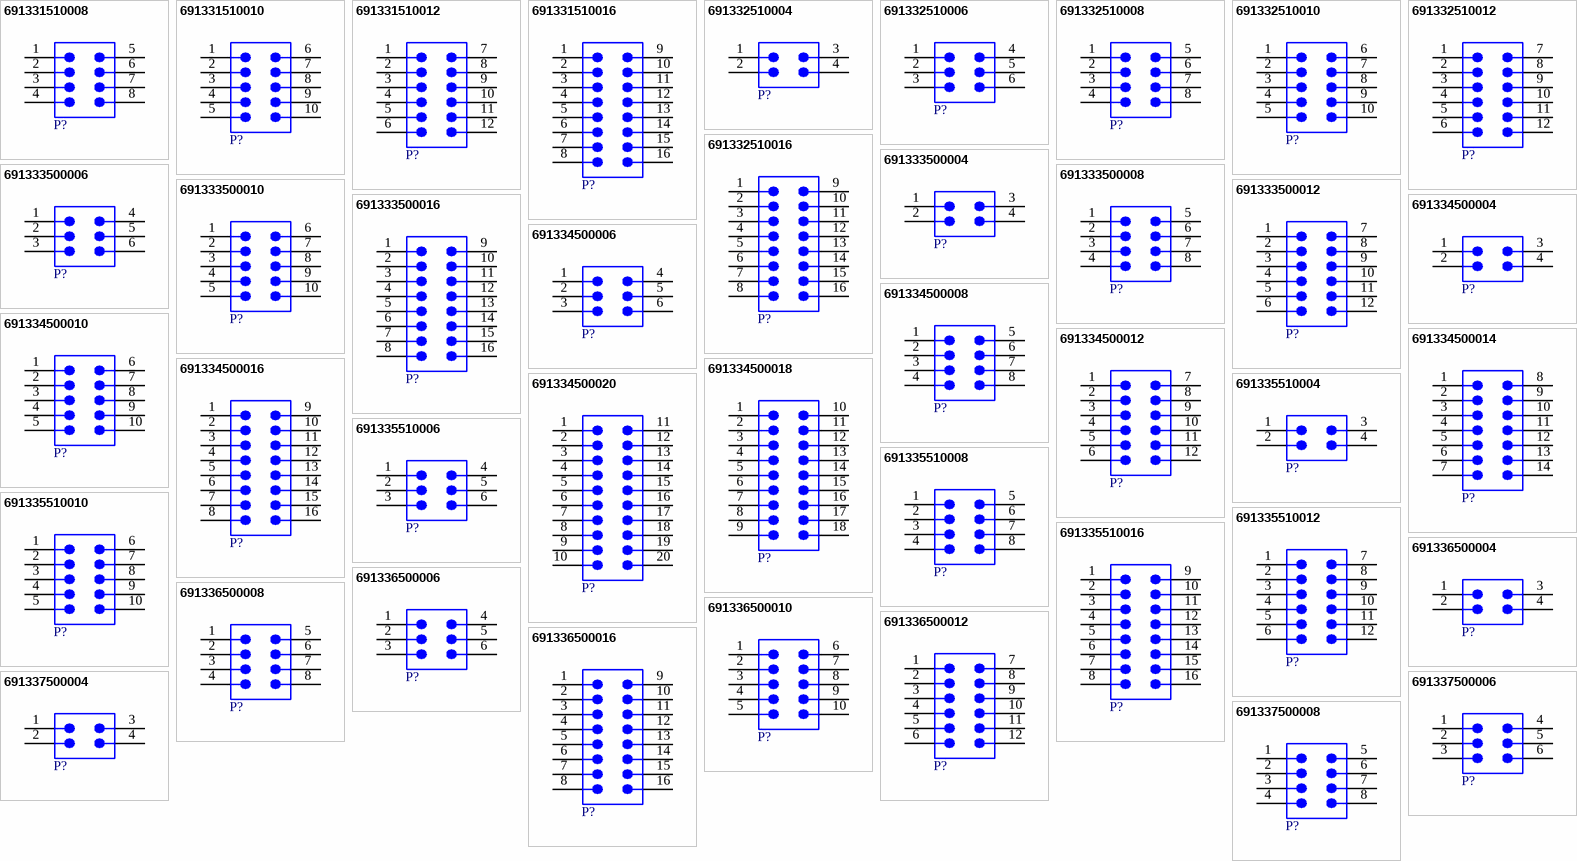
[diagram p26: symbols 691331510008 to 691337500008]

## 691331510008
designator P?  (value not drawn)
WR-TBL Series 3315 Double Level Horizontal PCB Header with Flanges, THT, pitch 5.08mm, 8p; Manufacturer: Wurth Elektronik; Modularity: No; Rated Current: 20A; Working Voltage: 300V; ComponentLink1Description: Website Link; ComponentLink1URL: https://www.we-online.com/redexpert/article/691331510008?ad; ComponentLink2Description: Datasheet Link; ComponentLink2URL: https://www.we-online.com/redexpert/spec/691331510008?ad; Manufacturer Part Number: 691331510008; Category: Terminal Blocks; Match Code: WR-TBL; Mount: Through Hole; Operating Temperature Max: 105°C; Operating Temperature Min: -40°C; Packaging: Box; Application: Pluggable; Number of Pins: 8; Number of Rows: 2; Orientation: Double Level Horizontal; Pitch: 5.08mm
footprint 691331510008
pins: 1, 2, 3, 4, 5, 6, 7, 8

## 691331510010
designator P?  (value not drawn)
WR-TBL Series 3315 Double Level Horizontal PCB Header with Flanges, THT, pitch 5.08mm, 10p; Manufacturer: Wurth Elektronik; Modularity: No; Rated Current: 20A; Working Voltage: 300V; ComponentLink1Description: Website Link; ComponentLink1URL: https://www.we-online.com/redexpert/article/691331510010?ad; ComponentLink2Description: Datasheet Link; ComponentLink2URL: https://www.we-online.com/redexpert/spec/691331510010?ad; Manufacturer Part Number: 691331510010; Category: Terminal Blocks; Match Code: WR-TBL; Mount: Through Hole; Operating Temperature Max: 105°C; Operating Temperature Min: -40°C; Packaging: Box; Application: Pluggable; Number of Pins: 10; Number of Rows: 2; Orientation: Double Level Horizontal; Pitch: 5.08mm
footprint 691331510010
pins: 1, 2, 3, 4, 5, 6, 7, 8, 9, 10

## 691331510012
designator P?  (value not drawn)
WR-TBL Series 3315 Double Level Horizontal PCB Header with Flanges, THT, pitch 5.08mm, 12p; Manufacturer: Wurth Elektronik; Modularity: No; Rated Current: 20A; Working Voltage: 300V; ComponentLink1Description: Website Link; ComponentLink1URL: https://www.we-online.com/redexpert/article/691331510012?ad; ComponentLink2Description: Datasheet Link; ComponentLink2URL: https://www.we-online.com/redexpert/spec/691331510012?ad; Manufacturer Part Number: 691331510012; Category: Terminal Blocks; Match Code: WR-TBL; Mount: Through Hole; Operating Temperature Max: 105°C; Operating Temperature Min: -40°C; Packaging: Box; Application: Pluggable; Number of Pins: 12; Number of Rows: 2; Orientation: Double Level Horizontal; Pitch: 5.08mm
footprint 691331510012
pins: 1, 2, 3, 4, 5, 6, 7, 8, 9, 10, 11, 12

## 691331510016
designator P?  (value not drawn)
WR-TBL Series 3315 Double Level Horizontal PCB Header with Flanges, THT, pitch 5.08mm, 16p; Manufacturer: Wurth Elektronik; Modularity: No; Rated Current: 20A; Working Voltage: 300V; ComponentLink1Description: Website Link; ComponentLink1URL: https://www.we-online.com/redexpert/article/691331510016?ad; ComponentLink2Description: Datasheet Link; ComponentLink2URL: https://www.we-online.com/redexpert/spec/691331510016?ad; Manufacturer Part Number: 691331510016; Category: Terminal Blocks; Match Code: WR-TBL; Mount: Through Hole; Operating Temperature Max: 105°C; Operating Temperature Min: -40°C; Packaging: Box; Application: Pluggable; Number of Pins: 16; Number of Rows: 2; Orientation: Double Level Horizontal; Pitch: 5.08mm
footprint 691331510016
pins: 1, 2, 3, 4, 5, 6, 7, 8, 9, 10, 11, 12, 13, 14, 15, 16

## 691332510004
designator P?  (value not drawn)
WR-TBL Series 3325 Double Level Horizontal PCB Header with Flanges & Nut Type, THT, pitch 5.08mm, 4p; Manufacturer: Wurth Elektronik; Modularity: No; Rated Current: 20A; Working Voltage: 300V; ComponentLink1Description: Website Link; ComponentLink1URL: https://www.we-online.com/redexpert/article/691332510004?ad; ComponentLink2Description: Datasheet Link; ComponentLink2URL: https://www.we-online.com/redexpert/spec/691332510004?ad; Manufacturer Part Number: 691332510004; Category: Terminal Blocks; Match Code: WR-TBL; Mount: Through Hole; Operating Temperature Max: 105°C; Operating Temperature Min: -40°C; Packaging: Box; Application: Pluggable; Number of Pins: 4; Number of Rows: 2; Orientation: Double Level Horizontal; Pitch: 5.08mm
footprint 691332510004
pins: 1, 2, 3, 4

## 691332510006
designator P?  (value not drawn)
WR-TBL Series 3325 Double Level Horizontal PCB Header with Flanges & Nut Type, THT, pitch 5.08mm, 6p; Manufacturer: Wurth Elektronik; Modularity: No; Rated Current: 20A; Working Voltage: 300V; ComponentLink1Description: Website Link; ComponentLink1URL: https://www.we-online.com/redexpert/article/691332510006?ad; ComponentLink2Description: Datasheet Link; ComponentLink2URL: https://www.we-online.com/redexpert/spec/691332510006?ad; Manufacturer Part Number: 691332510006; Category: Terminal Blocks; Match Code: WR-TBL; Mount: Through Hole; Operating Temperature Max: 105°C; Operating Temperature Min: -40°C; Packaging: Box; Application: Pluggable; Number of Pins: 6; Number of Rows: 2; Orientation: Double Level Horizontal; Pitch: 5.08mm
footprint 691332510006
pins: 1, 2, 3, 4, 5, 6

## 691332510008
designator P?  (value not drawn)
WR-TBL Series 3325 Double Level Horizontal PCB Header with Flanges & Nut Type, THT, pitch 5.08mm, 8p; Manufacturer: Wurth Elektronik; Modularity: No; Rated Current: 20A; Working Voltage: 300V; ComponentLink1Description: Website Link; ComponentLink1URL: https://www.we-online.com/redexpert/article/691332510008?ad; ComponentLink2Description: Datasheet Link; ComponentLink2URL: https://www.we-online.com/redexpert/spec/691332510008?ad; Manufacturer Part Number: 691332510008; Category: Terminal Blocks; Match Code: WR-TBL; Mount: Through Hole; Operating Temperature Max: 105°C; Operating Temperature Min: -40°C; Packaging: Box; Application: Pluggable; Number of Pins: 8; Number of Rows: 2; Orientation: Double Level Horizontal; Pitch: 5.08mm
footprint 691332510008
pins: 1, 2, 3, 4, 5, 6, 7, 8

## 691332510010
designator P?  (value not drawn)
WR-TBL Series 3325 Double Level Horizontal PCB Header with Flanges & Nut Type, THT, pitch 5.08mm, 10; Manufacturer: Wurth Elektronik; Modularity: No; Rated Current: 20A; Working Voltage: 300V; ComponentLink1Description: Website Link; ComponentLink1URL: https://www.we-online.com/redexpert/article/691332510010?ad; ComponentLink2Description: Datasheet Link; ComponentLink2URL: https://www.we-online.com/redexpert/spec/691332510010?ad; Manufacturer Part Number: 691332510010; Category: Terminal Blocks; Match Code: WR-TBL; Mount: Through Hole; Operating Temperature Max: 105°C; Operating Temperature Min: -40°C; Packaging: Box; Application: Pluggable; Number of Pins: 10; Number of Rows: 2; Orientation: Double Level Horizontal; Pitch: 5.08mm
footprint 691332510010
pins: 1, 2, 3, 4, 5, 6, 7, 8, 9, 10

## 691332510012
designator P?  (value not drawn)
WR-TBL Series 3325 Double Level Horizontal PCB Header with Flanges & Nut Type, THT, pitch 5.08mm, 12; Manufacturer: Wurth Elektronik; Modularity: No; Rated Current: 20A; Working Voltage: 300V; ComponentLink1Description: Website Link; ComponentLink1URL: https://www.we-online.com/redexpert/article/691332510012?ad; ComponentLink2Description: Datasheet Link; ComponentLink2URL: https://www.we-online.com/redexpert/spec/691332510012?ad; Manufacturer Part Number: 691332510012; Category: Terminal Blocks; Match Code: WR-TBL; Mount: Through Hole; Operating Temperature Max: 105°C; Operating Temperature Min: -40°C; Packaging: Box; Application: Pluggable; Number of Pins: 12; Number of Rows: 2; Orientation: Double Level Horizontal; Pitch: 5.08mm
footprint 691332510012
pins: 1, 2, 3, 4, 5, 6, 7, 8, 9, 10, 11, 12

## 691332510016
designator P?  (value not drawn)
WR-TBL Series 3325 Double Level Horizontal PCB Header with Flanges & Nut Type, THT, pitch 5.08mm, 16; Manufacturer: Wurth Elektronik; Modularity: No; Rated Current: 20A; Working Voltage: 300V; ComponentLink1Description: Website Link; ComponentLink1URL: https://www.we-online.com/redexpert/article/691332510016?ad; ComponentLink2Description: Datasheet Link; ComponentLink2URL: https://www.we-online.com/redexpert/spec/691332510016?ad; Manufacturer Part Number: 691332510016; Category: Terminal Blocks; Match Code: WR-TBL; Mount: Through Hole; Operating Temperature Max: 105°C; Operating Temperature Min: -40°C; Packaging: Box; Application: Pluggable; Number of Pins: 16; Number of Rows: 2; Orientation: Double Level Horizontal; Pitch: 5.08mm
footprint 691332510016
pins: 1, 2, 3, 4, 5, 6, 7, 8, 9, 10, 11, 12, 13, 14, 15, 16

## 691333500004
designator P?  (value not drawn)
WR-TBL Series 3335 Double Level Vertical PCB Header with Flanges, THT, pitch 5.08mm, 4p; Manufacturer: Wurth Elektronik; Modularity: No; Rated Current: 20A; Working Voltage: 300V; ComponentLink1Description: Website Link; ComponentLink1URL: https://www.we-online.com/redexpert/article/691333500004?ad; ComponentLink2Description: Datasheet Link; ComponentLink2URL: https://www.we-online.com/redexpert/spec/691333500004?ad; Manufacturer Part Number: 691333500004; Category: Terminal Blocks; Match Code: WR-TBL; Mount: Through Hole; Operating Temperature Max: 105°C; Operating Temperature Min: -40°C; Packaging: Box; Application: Pluggable; Number of Pins: 4; Number of Rows: 2; Orientation: Double Level Vertical; Pitch: 5.08mm
footprint 691333500004
pins: 1, 2, 3, 4

## 691333500006
designator P?  (value not drawn)
WR-TBL Series 3335 Double Level Vertical PCB Header with Flanges, THT, pitch 5.08mm, 6p; Manufacturer: Wurth Elektronik; Modularity: No; Rated Current: 20A; Working Voltage: 300V; ComponentLink1Description: Website Link; ComponentLink1URL: https://www.we-online.com/redexpert/article/691333500006?ad; ComponentLink2Description: Datasheet Link; ComponentLink2URL: https://www.we-online.com/redexpert/spec/691333500006?ad; Manufacturer Part Number: 691333500006; Category: Terminal Blocks; Match Code: WR-TBL; Mount: Through Hole; Operating Temperature Max: 105°C; Operating Temperature Min: -40°C; Packaging: Box; Application: Pluggable; Number of Pins: 6; Number of Rows: 2; Orientation: Double Level Vertical; Pitch: 5.08mm
footprint 691333500006
pins: 1, 2, 3, 4, 5, 6

## 691333500008
designator P?  (value not drawn)
WR-TBL Series 3335 Double Level Vertical PCB Header with Flanges, THT, pitch 5.08mm, 8p; Manufacturer: Wurth Elektronik; Modularity: No; Rated Current: 20A; Working Voltage: 300V; ComponentLink1Description: Website Link; ComponentLink1URL: https://www.we-online.com/redexpert/article/691333500008?ad; ComponentLink2Description: Datasheet Link; ComponentLink2URL: https://www.we-online.com/redexpert/spec/691333500008?ad; Manufacturer Part Number: 691333500008; Category: Terminal Blocks; Match Code: WR-TBL; Mount: Through Hole; Operating Temperature Max: 105°C; Operating Temperature Min: -40°C; Packaging: Box; Application: Pluggable; Number of Pins: 8; Number of Rows: 2; Orientation: Double Level Vertical; Pitch: 5.08mm
footprint 691333500008
pins: 1, 2, 3, 4, 5, 6, 7, 8

## 691333500010
designator P?  (value not drawn)
WR-TBL Series 3335 Double Level Vertical PCB Header with Flanges, THT, pitch 5.08mm, 10p; Manufacturer: Wurth Elektronik; Modularity: No; Rated Current: 20A; Working Voltage: 300V; ComponentLink1Description: Website Link; ComponentLink1URL: https://www.we-online.com/redexpert/article/691333500010?ad; ComponentLink2Description: Datasheet Link; ComponentLink2URL: https://www.we-online.com/redexpert/spec/691333500010?ad; Manufacturer Part Number: 691333500010; Category: Terminal Blocks; Match Code: WR-TBL; Mount: Through Hole; Operating Temperature Max: 105°C; Operating Temperature Min: -40°C; Packaging: Box; Application: Pluggable; Number of Pins: 10; Number of Rows: 2; Orientation: Double Level Vertical; Pitch: 5.08mm
footprint 691333500010
pins: 1, 2, 3, 4, 5, 6, 7, 8, 9, 10

## 691333500012
designator P?  (value not drawn)
WR-TBL Series 3335 Double Level Vertical PCB Header with Flanges, THT, pitch 5.08mm, 12p; Manufacturer: Wurth Elektronik; Modularity: No; Rated Current: 20A; Working Voltage: 300V; ComponentLink1Description: Website Link; ComponentLink1URL: https://www.we-online.com/redexpert/article/691333500012?ad; ComponentLink2Description: Datasheet Link; ComponentLink2URL: https://www.we-online.com/redexpert/spec/691333500012?ad; Manufacturer Part Number: 691333500012; Category: Terminal Blocks; Match Code: WR-TBL; Mount: Through Hole; Operating Temperature Max: 105°C; Operating Temperature Min: -40°C; Packaging: Box; Application: Pluggable; Number of Pins: 12; Number of Rows: 2; Orientation: Double Level Vertical; Pitch: 5.08mm
footprint 691333500012
pins: 1, 2, 3, 4, 5, 6, 7, 8, 9, 10, 11, 12

## 691333500016
designator P?  (value not drawn)
WR-TBL Series 3335 Double Level Vertical PCB Header with Flanges, THT, pitch 5.08mm, 16p; Manufacturer: Wurth Elektronik; Modularity: No; Rated Current: 20A; Working Voltage: 300V; ComponentLink1Description: Website Link; ComponentLink1URL: https://www.we-online.com/redexpert/article/691333500016?ad; ComponentLink2Description: Datasheet Link; ComponentLink2URL: https://www.we-online.com/redexpert/spec/691333500016?ad; Manufacturer Part Number: 691333500016; Category: Terminal Blocks; Match Code: WR-TBL; Mount: Through Hole; Operating Temperature Max: 105°C; Operating Temperature Min: -40°C; Packaging: Box; Application: Pluggable; Number of Pins: 16; Number of Rows: 2; Orientation: Double Level Vertical; Pitch: 5.08mm
footprint 691333500016
pins: 1, 2, 3, 4, 5, 6, 7, 8, 9, 10, 11, 12, 13, 14, 15, 16